# Altium integrated library BM11B-NSHSS-TBT.IntLib: 1 symbol
Pins are listed as number, name and electrical type; pins without a type are passive.

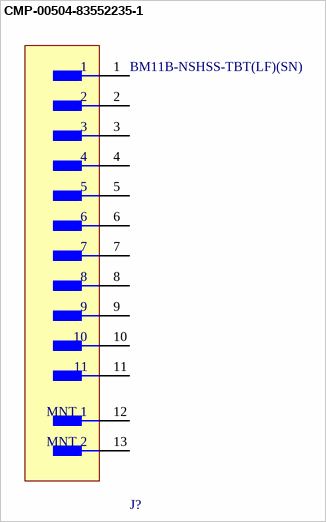
[diagram p0: symbol CMP-00504-83552235-1]

## CMP-00504-83552235-1
designator J?, comment BM11B-NSHSS-TBT(LF)(SN)
BM11B-NSHSS-TBT(LF)(SN) Connector Header Surface Mount 11 position 0.039 (1.00mm)"; Connector Type: Outer Shroud Contact; Current Rating: 1A; Number of Positions: 11; Pitch: 990.6µm; Voltage Rating: 50V; Number of Contacts: 12; Packaging: Tape & Reel (TR); Color: Natural; Min Operating Temperature: -25°C; Termination: Solder; Max Operating Temperature: 85°C; RoHS: Compliant; Height: 6mm; Fastening Type: Latch; Contact Plating: Tin; Number of Rows: 1; Mount: Surface Mount; Contact Material: Copper, Tin
footprint FP-BM11B-NSHSS-TBT_LF_S-MFG
pins: 1, 2, 3, 4, 5, 6, 7, 8, 9, 10, 11, 12 MNT 1, 13 MNT 2